# EAGLE library part ATTINY85 (library Charlie)
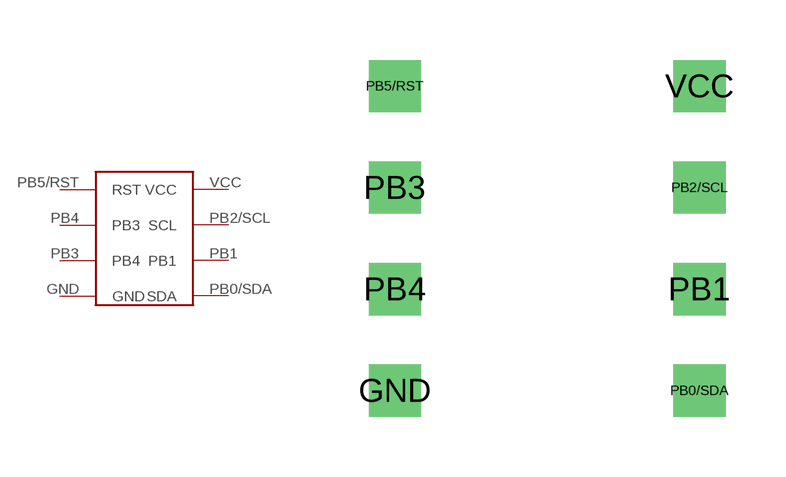
[diagram p5: symbol with the pads of ATTINY85; footprint ATTINY85]

Designator prefix -

## ATTINY85  [ATTINY85]
GND  GND
PB0/SDA  SDA
PB1  PB1
PB2/SCL  SCL
PB3  PB4
PB4  PB3
PB5/RST  RST
VCC  VCC

## Footprint ATTINY85 (pad centres in mm)
drill 0.8 square: GND -3.81,-3.81; PB0/SDA 3.81,-3.81; PB1 3.81,-1.27; PB2/SCL 3.81,1.27; PB3 -3.81,1.27; PB4 -3.81,-1.27; PB5/RST -3.81,3.81; VCC 3.81,3.81